# EAGLE library part FPC-55WAY (library pimoroni-fpc)
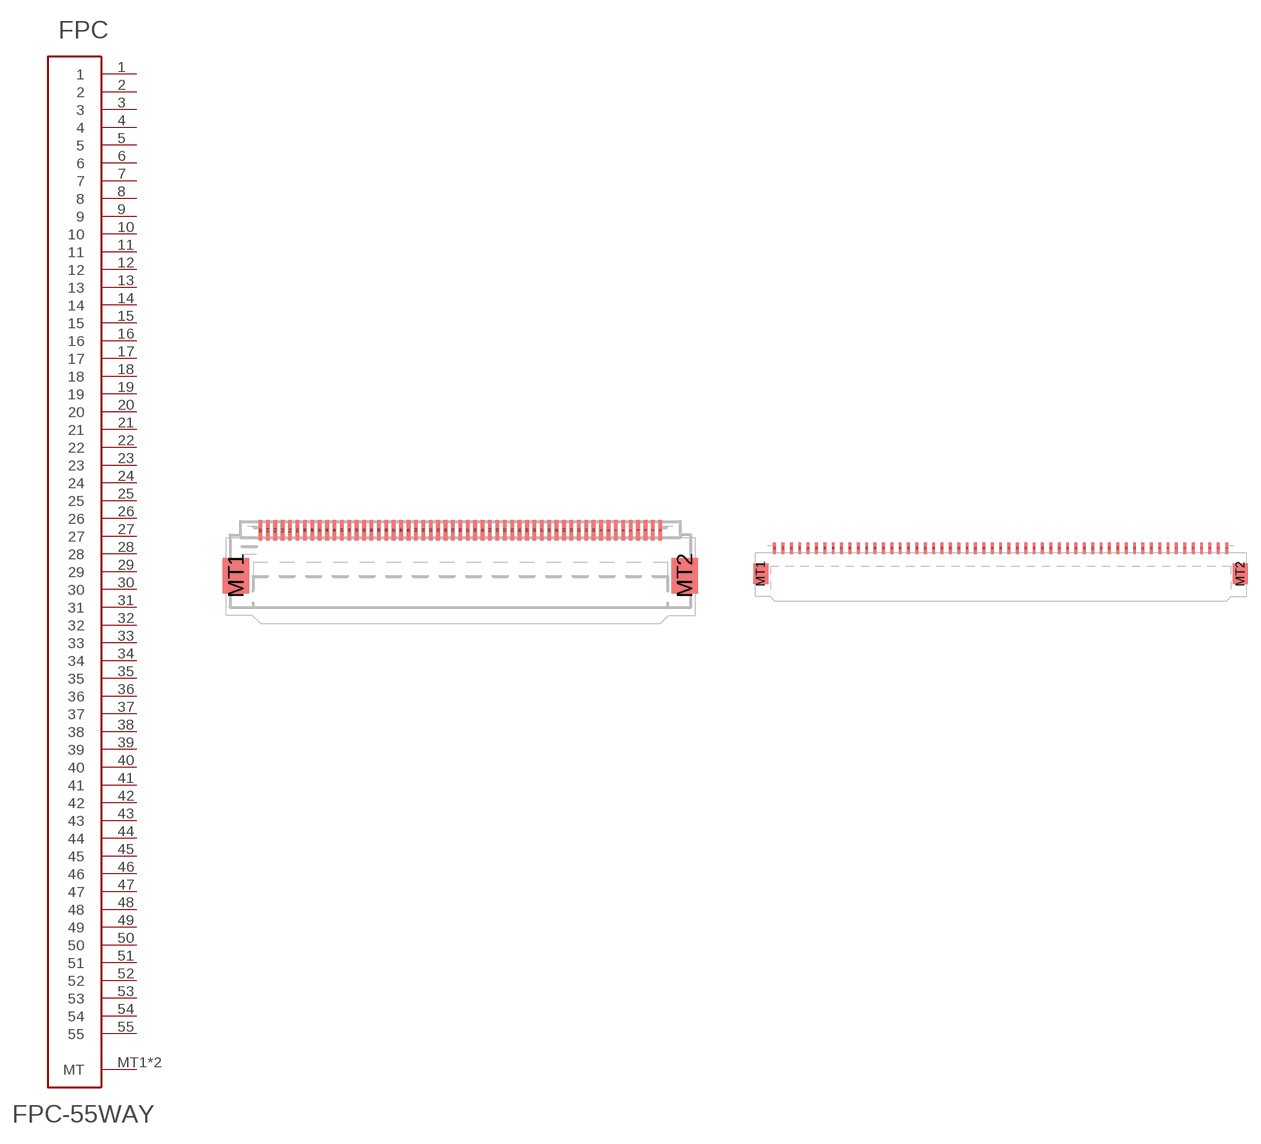
[diagram p50: symbol with the pads of FPC-0.5MM-55WAY; footprints FPC-0.5MM-55WAY, FPC-1.0MM-55WAY]

Designator prefix FPC

## FPC-55WAY0.5  [FPC-0.5MM-55WAY]
1  1
2  2
3  3
4  4
5  5
6  6
7  7
8  8
9  9
10  10
11  11
12  12
13  13
14  14
15  15
16  16
17  17
18  18
19  19
20  20
21  21
22  22
23  23
24  24
25  25
26  26
27  27
28  28
29  29
30  30
31  31
32  32
33  33
34  34
35  35
36  36
37  37
38  38
39  39
40  40
41  41
42  42
43  43
44  44
45  45
46  46
47  47
48  48
49  49
50  50
51  51
52  52
53  53
54  54
55  55
MT1  MT
MT2  MT

## FPC-55WAY1.0  [FPC-1.0MM-55WAY]
Pads as for FPC-0.5MM-55WAY

## Footprint FPC-0.5MM-55WAY (pad centres in mm)
smd 0.25 x 1.4: 1 13.5,0.7; 2 13,0.7; 3 12.5,0.7; 4 12,0.7; 5 11.5,0.7; 6 11,0.7; 7 10.5,0.7; 8 10,0.7; 9 9.5,0.7; 10 9,0.7; 11 8.5,0.7; 12 8,0.7; 13 7.5,0.7; 14 7,0.7; 15 6.5,0.7; 16 6,0.7; 17 5.5,0.7; 18 5,0.7; 19 4.5,0.7; 20 4,0.7; 21 3.5,0.7; 22 3,0.7; 23 2.5,0.7; 24 2,0.7; 25 1.5,0.7; 26 1,0.7; 27 0.5,0.7; 28 0,0.7; 29 -0.5,0.7; 30 -1,0.7; 31 -1.5,0.7; 32 -2,0.7; 33 -2.5,0.7; 34 -3,0.7; 35 -3.5,0.7; 36 -4,0.7; 37 -4.5,0.7; 38 -5,0.7; 39 -5.5,0.7; 40 -6,0.7; 41 -6.5,0.7; 42 -7,0.7; 43 -7.5,0.7; 44 -8,0.7; 45 -8.5,0.7; 46 -9,0.7; 47 -9.5,0.7; 48 -10,0.7; 49 -10.5,0.7; 50 -11,0.7; 51 -11.5,0.7; 52 -12,0.7; 53 -12.5,0.7; 54 -13,0.7; 55 -13.5,0.7
smd 1.8 x 2.4: MT1 -15.15,-2.35; MT2 15.15,-2.35

## Footprint FPC-1.0MM-55WAY (pad centres in mm)
smd 0.35 x 1.4: 1 27,0.7; 2 26,0.7; 3 25,0.7; 4 24,0.7; 5 23,0.7; 6 22,0.7; 7 21,0.7; 8 20,0.7; 9 19,0.7; 10 18,0.7; 11 17,0.7; 12 16,0.7; 13 15,0.7; 14 14,0.7; 15 13,0.7; 16 12,0.7; 17 11,0.7; 18 10,0.7; 19 9,0.7; 20 8,0.7; 21 7,0.7; 22 6,0.7; 23 5,0.7; 24 4,0.7; 25 3,0.7; 26 2,0.7; 27 1,0.7; 28 0,0.7; 29 -1,0.7; 30 -2,0.7; 31 -3,0.7; 32 -4,0.7; 33 -5,0.7; 34 -6,0.7; 35 -7,0.7; 36 -8,0.7; 37 -9,0.7; 38 -10,0.7; 39 -11,0.7; 40 -12,0.7; 41 -13,0.7; 42 -14,0.7; 43 -15,0.7; 44 -16,0.7; 45 -17,0.7; 46 -18,0.7; 47 -19,0.7; 48 -20,0.7; 49 -21,0.7; 50 -22,0.7; 51 -23,0.7; 52 -24,0.7; 53 -25,0.7; 54 -26,0.7; 55 -27,0.7
smd 1.8 x 2.4: MT1 -28.65,-2.35; MT2 28.65,-2.35